# EAGLE library part XIAO-ESP32C3 (library Seeed Studio XIAO Series)
Seeed Studio XIAO ESP32C3 - Espressif ESP32-C3 WiFi BLE Microcontroller - 32-bit 160MHz RISC-V processor Seeed SKU: 113991054 Seeed Studio XIAO ESP32C3 featuring ESP32C3 carries a complete Wi-Fi system along with Bluetooth Low Energy function. With its exquisite design, WiFi+BT ability, it's perfect for various IoT controlling scenarios and complex carriable applications. Buy now <https://www.seeedstudio.com/Seeed-XIAO-ESP32C3-p-5431.html> Wiki <https://wiki.seeedstudio.com/XIAO_ESP32C3_Getting_Started/>
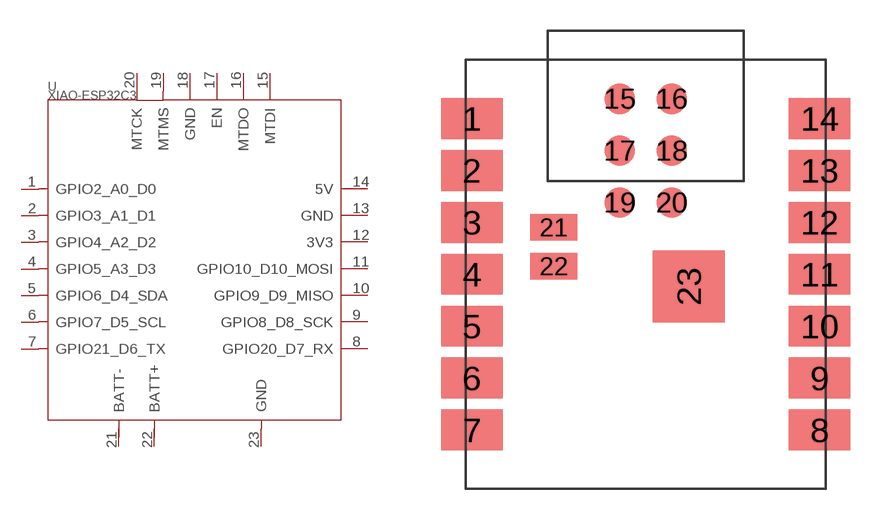
[diagram p3: symbol with the pads of XIAO-ESP32C3-MODULE14P-2.54-21X17.8MM; footprint XIAO-ESP32C3-MODULE14P-2.54-21X17.8MM]

Designator prefix U

## XIAO-ESP32C3  [XIAO-ESP32C3-MODULE14P-2.54-21X17.8MM]
1  GPIO2_A0_D0
2  GPIO3_A1_D1
3  GPIO4_A2_D2
4  GPIO5_A3_D3
5  GPIO6_D4_SDA
6  GPIO7_D5_SCL
7  GPIO21_D6_TX
8  GPIO20_D7_RX
9  GPIO8_D8_SCK
10  GPIO9_D9_MISO
11  GPIO10_D10_MOSI
12  3V3
13  GND
14  5V
15  MTDI
16  MTDO
17  EN
18  GND
19  MTMS
20  MTCK
21  BATT-
22  BATT+
23  GND

## Footprint XIAO-ESP32C3-MODULE14P-2.54-21X17.8MM (pad centres in mm)
smd 3 x 2: 1 -8.5,7.62; 2 -8.5,5.08; 3 -8.5,2.54; 4 -8.5,0; 5 -8.5,-2.54; 6 -8.5,-5.08; 7 -8.5,-7.62; 8 8.5,-7.62; 9 8.5,-5.08; 10 8.5,-2.54; 11 8.5,0; 12 8.5,2.54; 13 8.5,5.08; 14 8.5,7.62
smd 1.5 x 1.5: 15 -1.27,8.58; 16 1.27,8.58; 17 -1.27,6.04; 18 1.27,6.04; 19 -1.27,3.5; 20 1.27,3.5
smd 2.3 x 1.3: 21 -4.5,2.3; 22 -4.5,0.4
smd 3.5 x 3.5: 23 2.1,-0.6